# Altium integrated library Linear Technology Power Management Switching Regulator LTC1174-LTC3901.IntLib: 2647 symbols (part 167 of 364)
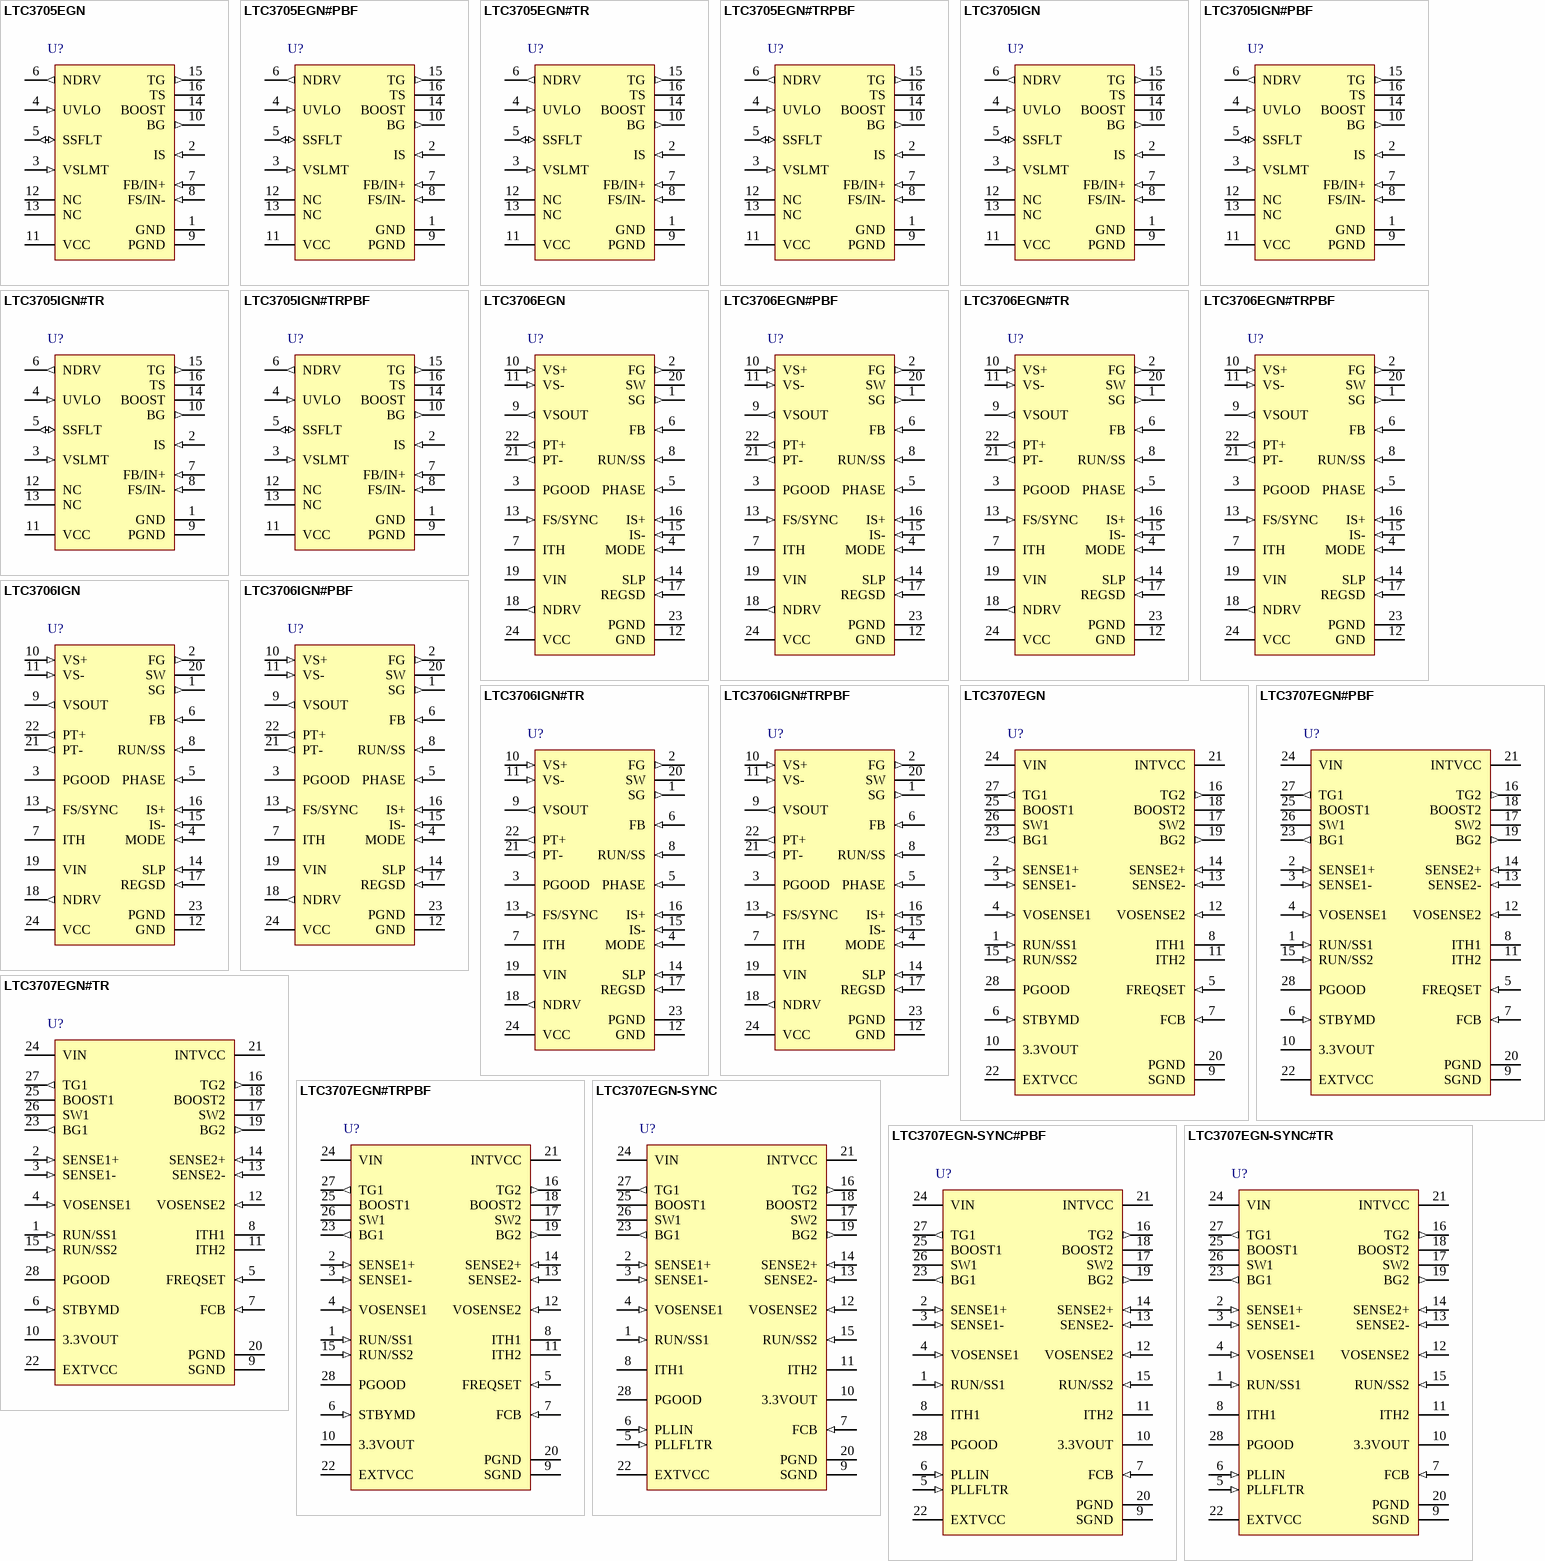
[diagram p200: symbols LTC3705EGN to LTC3707EGN-SYNC#TR]

## LTC3707EGN-SYNC#TR
designator U?
High Efficiency, 2-Phase Synchronous Step-Down Switching Regulator, 28-pin SOP (GN-28), -40 to 85 degC, Tape and Reel; Manufacturer: Linear Technology; PartNumber: LTC3707EGN-SYNC#TR; Frequency Sync Range: 150kHz - 300kHz; Number of Outputs: 2; DatasheetVersion: Rev. A; PackageVersion: Rev. B, 03/2012; PackageReference: GN-28; PackageDescription: 28-Pin Plastic SSOP, Body 9.9 x 3.9 mm, Pitch 0.635 mm; Supplier 1: Digi-Key; Supplier Part Number 1: LTC3707EGN-SYNCTR-ND; Packing: Tape and Reel; RoHS: FALSE; Mounting Technology: Surface Mount; ComponentLink1Description: Manufacturer URL; ComponentLink1URL: http://www.linear.com/; ComponentLink2Description: Datasheet; ComponentLink2URL: http://cds.linear.com/docs/en/datasheet/3707sfa.pdf; ComponentLink3Description: Package Specification; ComponentLink3URL: http://cds.linear.com/docs/en/packaging/05081641_B_GN28.pdf
footprint LT-GN-28_N (SOP, 28-Leads, Body 9.98x3.98mm, Pitch 0.635mm, IPC Medium Density)
footprint LT-GN-28_L (SOP, 28-Leads, Body 9.98x3.98mm, Pitch 0.635mm, IPC High Density)
footprint LT-GN-28_M (SOP, 28-Leads, Body 9.98x3.98mm, Pitch 0.635mm, IPC Low Density)
pins: 1 RUN/SS1 (in), 2 SENSE1+ (in) "The (+) Input to the Differential Current Comparators. The ITH pin voltage and controlled offsets between the SENSE- and SENSE+ pins in conjunction with RSENSE set the current trip threshold.", 3 SENSE1- (in) "The (-) Input to the Differential Current Comparators.", 4 VOSENSE1 (in) "Receives the remotely-sensed feedback voltage for each controller from an external resistive divider across the output.", 5 PLLFLTR (in) "The phase-locked loop’s lowpass filter is tied to this pin. Alternatively, this pin can be driven with an AC or DC voltage source to vary the frequency of the internal oscillator.", 6 PLLIN (in) "External Synchronization Input to Phase Detector. This pin is internally terminated to SGND with 50kohm. The phase-locked loop will force the rising top gate signal of controller 1 to be synchronized with the rising edge of (See Datasheet)", 7 FCB (in) "Forced Continuous Control Input. This input acts on both controllers and is normally used to regulate a secondary winding. Pulling this pin below 0.8V will force continuous synchronous operation. Do not leave this pin (See Datasheet)", 8 ITH1 "Error Amplifier Outputs and Switching Regulator Compensation Point. Each associated channels’ current comparator trip point increases with this control voltage.", 9 SGND (power) "Small Signal Ground. Common to both controllers; must be routed separately from high current grounds to the common (-) terminals of the COUT capacitors.", 10 3.3VOUT (power), 11 ITH2 "Error Amplifier Outputs and Switching Regulator Compensation Point. Each associated channels’ current comparator trip point increases with this control voltage.", 12 VOSENSE2 (in) "Receives the remotely-sensed feedback voltage for each controller from an external resistive divider across the output.", 13 SENSE2- (in) "The (-) Input to the Differential Current Comparators.", 14 SENSE2+ (in) "The (+) Input to the Differential Current Comparators. The ITH pin voltage and controlled offsets between the SENSE- and SENSE+ pins in conjunction with RSENSE set the current trip threshold.", 15 RUN/SS2 (in), 16 TG2 (out) "High Current Gate Drives for Top N-Channel MOSFETs. These are the outputs of floating drivers with a voltage swing equal to INTVCC - 0.5V superimposed on the switch node voltage SW.", 17 SW2 "Switch Node Connections to Inductors. Voltage swing at these pins is from a Schottky diode (external) voltage drop below ground to VIN.", 18 BOOST2 "Bootstrapped Supplies to the Top Side Floating Drivers. Capacitors are connected between the boost and switch pins and Schottky diodes are tied between the boost and INTVCC pins. Voltage swing at the boost pins is from (See Datasheet)", 19 BG2 (out) "High Current Gate Drives for Bottom (Synchronous) N-Channel MOSFETs. Voltage swing at these pins is from ground to INTVCC", 20 PGND (power) "Driver Power Ground. Connects to the sources of bottom (synchronous) N-channel MOSFETs, anodes of the Schottky rectifiers and the (-) terminal(s) of CIN.", 21 INTVCC (power), 22 EXTVCC (power), 23 BG1 (out) "High Current Gate Drives for Bottom (Synchronous) N-Channel MOSFETs. Voltage swing at these pins is from ground to INTVCC", 24 VIN (power) "Main Supply Pin. A bypass capacitor should be tied between this pin and the signal ground pin.", 25 BOOST1 "Bootstrapped Supplies to the Top Side Floating Drivers. Capacitors are connected between the boost and switch pins and Schottky diodes are tied between the boost and INTVCC pins. Voltage swing at the boost pins is from (See Datasheet)", 26 SW1 "Switch Node Connections to Inductors. Voltage swing at these pins is from a Schottky diode (external) voltage drop below ground to VIN.", 27 TG1 (out) "High Current Gate Drives for Top N-Channel MOSFETs. These are the outputs of floating drivers with a voltage swing equal to INTVCC - 0.5V superimposed on the switch node voltage SW.", 28 PGOOD (oc) "Open-Drain Logic Output. PGOOD is pulled to ground when the voltage on either VOSENSE pin is not within +/-7.5% of its set point."

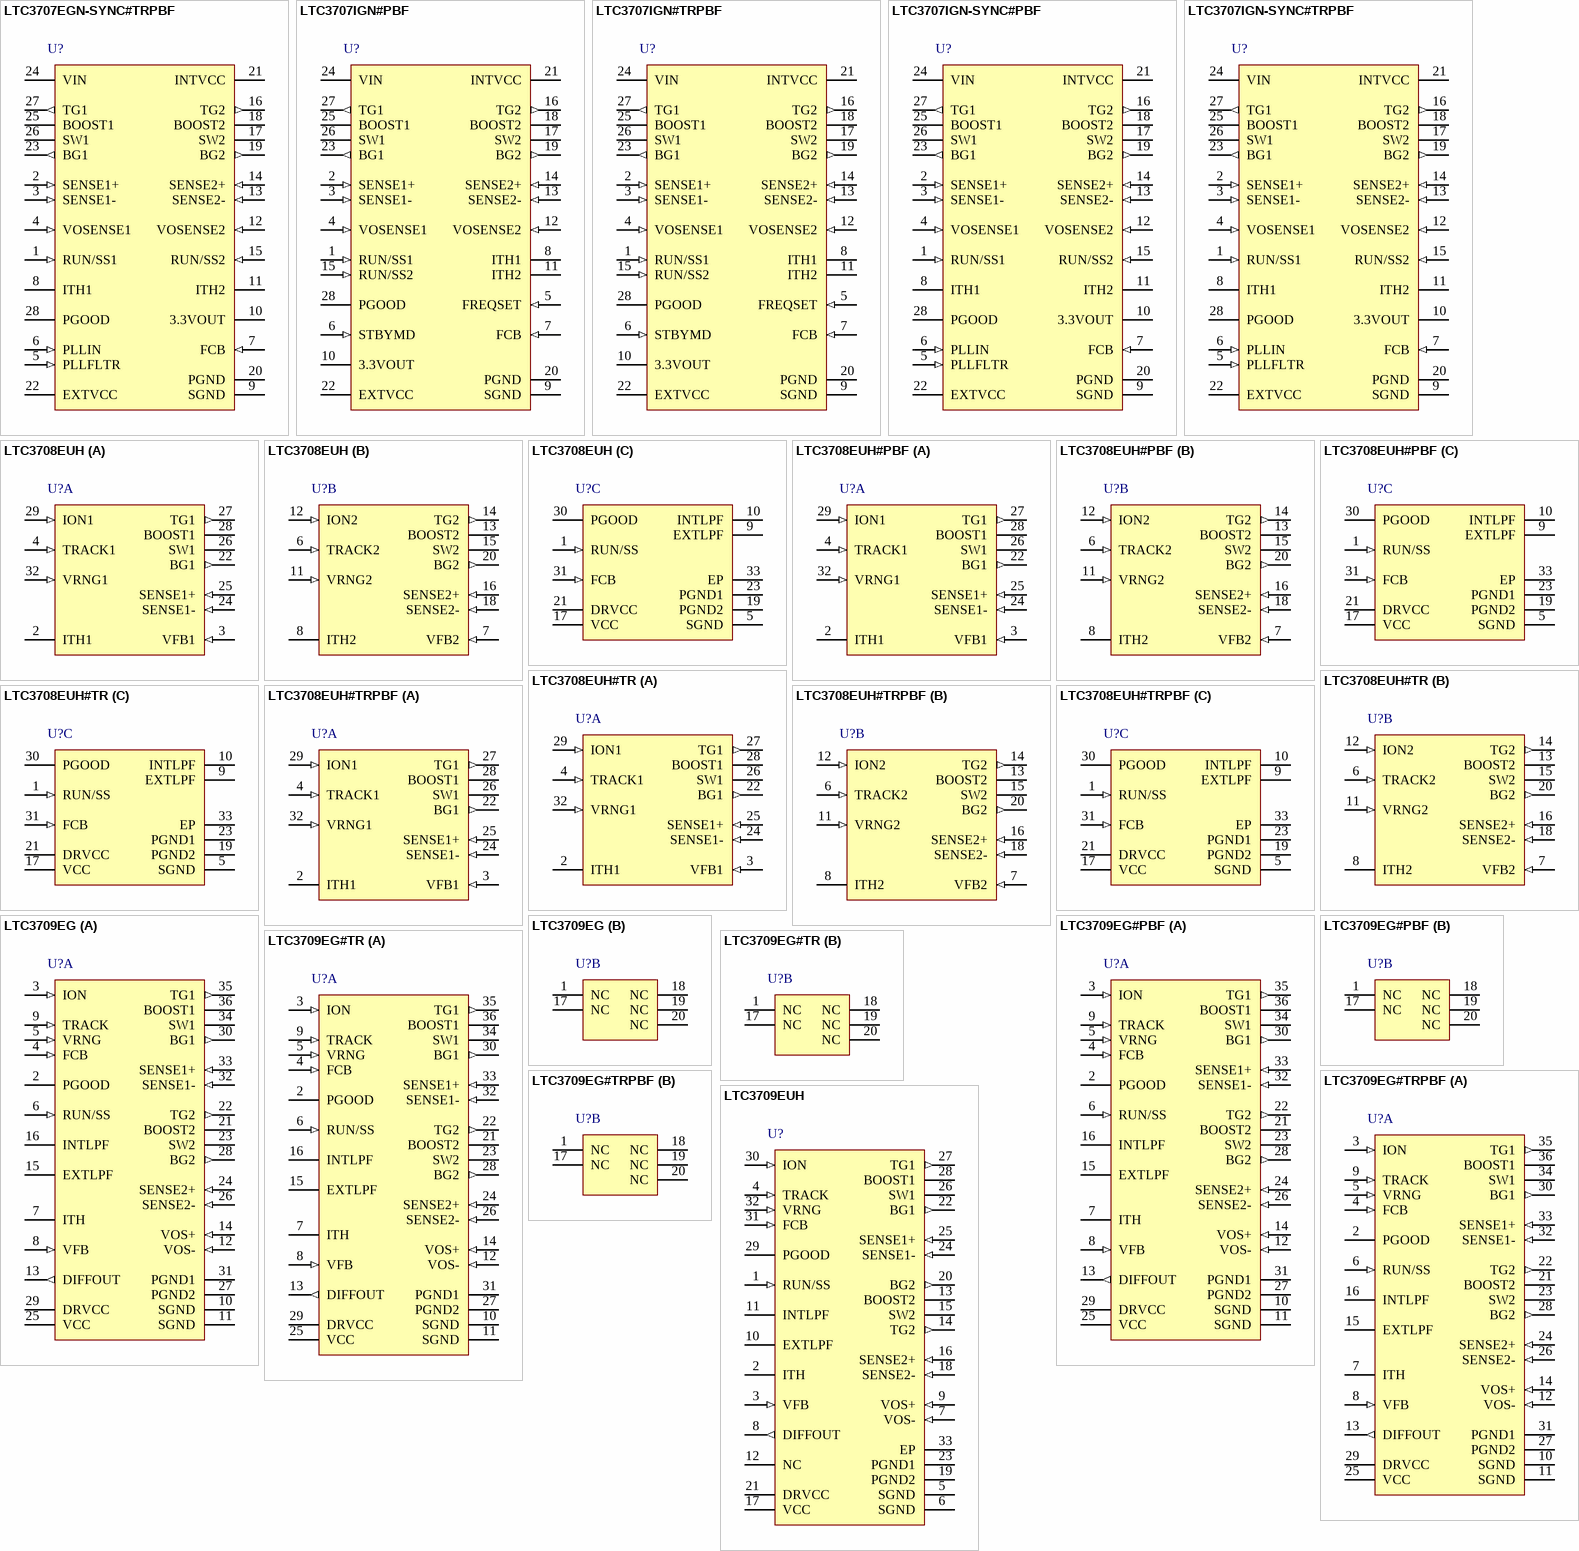
[diagram p53: symbols LTC3707EGN-SYNC#TRPBF to LTC3709EUH]

## LTC3707EGN-SYNC#TRPBF
designator U?
High Efficiency, 2-Phase Synchronous Step-Down Switching Regulator, 28-pin SOP (GN-28), -40 to 85 degC, Pb-Free, Tape and Reel; Manufacturer: Linear Technology; PartNumber: LTC3707EGN-SYNC#TRPBF; Frequency Sync Range: 150kHz - 300kHz; Number of Outputs: 2; DatasheetVersion: Rev. A; PackageVersion: Rev. B, 03/2012; PackageReference: GN-28; PackageDescription: 28-Pin Plastic SSOP, Body 9.9 x 3.9 mm, Pitch 0.635 mm; Supplier 1: Digi-Key; Supplier Part Number 1: LTC3707EGN-SYNC#TRPBF-ND; Packing: Tape and Reel; RoHS: TRUE; Mounting Technology: Surface Mount; ComponentLink1Description: Manufacturer URL; ComponentLink1URL: http://www.linear.com/; ComponentLink2Description: Datasheet; ComponentLink2URL: http://cds.linear.com/docs/en/datasheet/3707sfa.pdf; ComponentLink3Description: Package Specification; ComponentLink3URL: http://cds.linear.com/docs/en/packaging/05081641_B_GN28.pdf
footprint LT-GN-28_N (SOP, 28-Leads, Body 9.98x3.98mm, Pitch 0.635mm, IPC Medium Density)
footprint LT-GN-28_L (SOP, 28-Leads, Body 9.98x3.98mm, Pitch 0.635mm, IPC High Density)
footprint LT-GN-28_M (SOP, 28-Leads, Body 9.98x3.98mm, Pitch 0.635mm, IPC Low Density)
pins: 1 RUN/SS1 (in), 2 SENSE1+ (in) "The (+) Input to the Differential Current Comparators. The ITH pin voltage and controlled offsets between the SENSE- and SENSE+ pins in conjunction with RSENSE set the current trip threshold.", 3 SENSE1- (in) "The (-) Input to the Differential Current Comparators.", 4 VOSENSE1 (in) "Receives the remotely-sensed feedback voltage for each controller from an external resistive divider across the output.", 5 PLLFLTR (in) "The phase-locked loop’s lowpass filter is tied to this pin. Alternatively, this pin can be driven with an AC or DC voltage source to vary the frequency of the internal oscillator.", 6 PLLIN (in) "External Synchronization Input to Phase Detector. This pin is internally terminated to SGND with 50kohm. The phase-locked loop will force the rising top gate signal of controller 1 to be synchronized with the rising edge of (See Datasheet)", 7 FCB (in) "Forced Continuous Control Input. This input acts on both controllers and is normally used to regulate a secondary winding. Pulling this pin below 0.8V will force continuous synchronous operation. Do not leave this pin (See Datasheet)", 8 ITH1 "Error Amplifier Outputs and Switching Regulator Compensation Point. Each associated channels’ current comparator trip point increases with this control voltage.", 9 SGND (power) "Small Signal Ground. Common to both controllers; must be routed separately from high current grounds to the common (-) terminals of the COUT capacitors.", 10 3.3VOUT (power), 11 ITH2 "Error Amplifier Outputs and Switching Regulator Compensation Point. Each associated channels’ current comparator trip point increases with this control voltage.", 12 VOSENSE2 (in) "Receives the remotely-sensed feedback voltage for each controller from an external resistive divider across the output.", 13 SENSE2- (in) "The (-) Input to the Differential Current Comparators.", 14 SENSE2+ (in) "The (+) Input to the Differential Current Comparators. The ITH pin voltage and controlled offsets between the SENSE- and SENSE+ pins in conjunction with RSENSE set the current trip threshold.", 15 RUN/SS2 (in), 16 TG2 (out) "High Current Gate Drives for Top N-Channel MOSFETs. These are the outputs of floating drivers with a voltage swing equal to INTVCC - 0.5V superimposed on the switch node voltage SW.", 17 SW2 "Switch Node Connections to Inductors. Voltage swing at these pins is from a Schottky diode (external) voltage drop below ground to VIN.", 18 BOOST2 "Bootstrapped Supplies to the Top Side Floating Drivers. Capacitors are connected between the boost and switch pins and Schottky diodes are tied between the boost and INTVCC pins. Voltage swing at the boost pins is from (See Datasheet)", 19 BG2 (out) "High Current Gate Drives for Bottom (Synchronous) N-Channel MOSFETs. Voltage swing at these pins is from ground to INTVCC", 20 PGND (power) "Driver Power Ground. Connects to the sources of bottom (synchronous) N-channel MOSFETs, anodes of the Schottky rectifiers and the (-) terminal(s) of CIN.", 21 INTVCC (power), 22 EXTVCC (power), 23 BG1 (out) "High Current Gate Drives for Bottom (Synchronous) N-Channel MOSFETs. Voltage swing at these pins is from ground to INTVCC", 24 VIN (power) "Main Supply Pin. A bypass capacitor should be tied between this pin and the signal ground pin.", 25 BOOST1 "Bootstrapped Supplies to the Top Side Floating Drivers. Capacitors are connected between the boost and switch pins and Schottky diodes are tied between the boost and INTVCC pins. Voltage swing at the boost pins is from (See Datasheet)", 26 SW1 "Switch Node Connections to Inductors. Voltage swing at these pins is from a Schottky diode (external) voltage drop below ground to VIN.", 27 TG1 (out) "High Current Gate Drives for Top N-Channel MOSFETs. These are the outputs of floating drivers with a voltage swing equal to INTVCC - 0.5V superimposed on the switch node voltage SW.", 28 PGOOD (oc) "Open-Drain Logic Output. PGOOD is pulled to ground when the voltage on either VOSENSE pin is not within +/-7.5% of its set point."

## LTC3707IGN#PBF
designator U?
High Efficiency, 2-Phase Synchronous Step-Down Switching Regulator, 28-pin SOP (GN-28), -40 to 85 degC, Pb-Free; Manufacturer: Linear Technology; PartNumber: LTC3707IGN#PBF; Number of Outputs: 2; DatasheetVersion: Rev. B; PackageVersion: Rev. B, 03/2012; PackageReference: GN-28; PackageDescription: 28-Pin Plastic SSOP, Body 9.9 x 3.9 mm, Pitch 0.635 mm; Supplier 1: Digi-Key; Supplier Part Number 1: LTC3707IGN#PBF-ND; RoHS: TRUE; Mounting Technology: Surface Mount; ComponentLink1Description: Manufacturer URL; ComponentLink1URL: http://www.linear.com/; ComponentLink2Description: Datasheet; ComponentLink2URL: http://cds.linear.com/docs/en/datasheet/3707fb.pdf; ComponentLink3Description: Package Specification; ComponentLink3URL: http://cds.linear.com/docs/en/packaging/05081641_B_GN28.pdf
footprint LT-GN-28_N (SOP, 28-Leads, Body 9.98x3.98mm, Pitch 0.635mm, IPC Medium Density)
footprint LT-GN-28_L (SOP, 28-Leads, Body 9.98x3.98mm, Pitch 0.635mm, IPC High Density)
footprint LT-GN-28_M (SOP, 28-Leads, Body 9.98x3.98mm, Pitch 0.635mm, IPC Low Density)
pins: 1 RUN/SS1 (in) "Combination of soft-start, run control inputs and short-circuit detection timers. A capacitor to ground at each of these pins sets the ramp time to full output current. Forcing either of these pins back below 1.0V causes the (See Datasheet)", 2 SENSE1+ (in) "The (+) Input to the Differential Current Comparators. The ITH pin voltage and controlled offsets between the SENSE- and SENSE+ pins in conjunction with RSENSE set the current trip threshold.", 3 SENSE1- (in) "The (-) Input to the Differential Current Comparators.", 4 VOSENSE1 (in) "Receives the remotely sensed feedback voltage for each controller from an external resistive divider across the output.", 5 FREQSET (in) "Frequency Control Input to the Oscillator. This pin can be left open, tied to ground, tied to INTVCC or driven by an external voltage source. This pin can also be used with an external phase detector to build a true (See Datasheet)", 6 STBYMD (in) "Control pin that determines which circuitry remains active when the controllers are shut down and/or provides a common control point to shut down both controllers. See the Operation section for details.", 7 FCB (in) "Forced Continuous Control Input. This input acts on both controllers and is normally used to regulate a secondary winding. Pulling this pin below 0.8V will force continuous synchronous operation on both controllers. Do not (See Datasheet)", 8 ITH1 "Error Amplifier Output and Switching Regulator Compensation Point. Each associated channels’ current comparator trip point increases with this control voltage.", 9 SGND (power) "Small Signal Ground common to both controllers, must be routed separately from high current grounds to the common (-) terminals of the COUT capacitors.", 10 3.3VOUT (power) "Output of a linear regulator capable of supplying 10mA DC with peak currents as high as 50mA.", 11 ITH2 "Error Amplifier Output and Switching Regulator Compensation Point. Each associated channels’ current comparator trip point increases with this control voltage.", 12 VOSENSE2 (in) "Receives the remotelysensed feedback voltage for each controller from an external resistive divider across the output.", 13 SENSE2- (in) "The (-) Input to the Differential Current Comparators.", 14 SENSE2+ (in) "The (+) Input to the Differential Current Comparators. The ITH pin voltage and controlled offsets between the SENSE- and SENSE+ pins in conjunction with RSENSE set the current trip threshold.", 15 RUN/SS2 (in) "Combination of soft-start, run control inputs and short-circuit detection timers. A capacitor to ground at each of these pins sets the ramp time to full output current. Forcing either of these pins back below 1.0V causes the (See Datasheet)", 16 TG2 (out) "High Current Gate Drives for Top N-Channel MOSFETs. These are the outputs of floating drivers with a voltage swing equal to INTVCC - 0.5V superimposed on the switch node voltage SW.", 17 SW2 "Switch Node Connections to Inductors. Voltage swing at these pins is from a Schottky diode (external) voltage drop below ground to VIN.", 18 BOOST2 "Bootstrapped Supplies to the Top Side Floating Drivers. Capacitors are connected between the boost and switch pins and Schottky diodes are tied between the boost and INTVCC pins. Voltage swing at the boost pins is from (See Datasheet)", 19 BG2 (out) "High Current Gate Drives for Bottom (Synchronous) N-Channel MOSFETs. Voltage swing at these pins is from ground to INTVCC.", 20 PGND (power) "Driver Power Ground. Connects to the sources of bottom (synchronous) N-channel MOSFETs, anodes of the Schottky rectifi ers and the (-) terminal(s) of CIN.", 21 INTVCC (power) "Output of the Internal 5V Linear Low Dropout Regulator and the EXTVCC Switch. The driver and control circuits are powered from this voltage source. Must be decoupled to power ground with a minimum of 4.7uF tantalum or other (See Datasheet)", 22 EXTVCC (power) "External Power Input to an Internal Switch Connected to INTVCC. This switch closes and supplies VCC power, bypassing the internal low dropout regulator, whenever EXTVCC is higher than 4.7V. See EXTVCC connection in (See Datasheet)", 23 BG1 (out) "High Current Gate Drives for Bottom (Synchronous) N-Channel MOSFETs. Voltage swing at these pins is from ground to INTVCC.", 24 VIN (power) "Main Supply Pin. A bypass capacitor should be tied between this pin and the signal ground pin.", 25 BOOST1 "Bootstrapped Supplies to the Top Side Floating Drivers. Capacitors are connected between the boost and switch pins and Schottky diodes are tied between the boost and INTVCC pins. Voltage swing at the boost pins is from (See Datasheet)", 26 SW1 "Switch Node Connections to Inductors. Voltage swing at these pins is from a Schottky diode (external) voltage drop below ground to VIN.", 27 TG1 (out) "High Current Gate Drives for Top N-Channel MOSFETs. These are the outputs of floating drivers with a voltage swing equal to INTVCC - 0.5V superimposed on the switch node voltage SW.", 28 PGOOD (oc) "Open-Drain Logic Output. PGOOD is pulled to ground when the voltage on either VOSENSE pin is not within +/-7.5% of its set point."

## LTC3707IGN#TRPBF
designator U?
High Efficiency, 2-Phase Synchronous Step-Down Switching Regulator, 28-pin SOP (GN-28), -40 to 85 degC, Pb-Free, Tape and Reel; Manufacturer: Linear Technology; PartNumber: LTC3707IGN#TRPBF; Number of Outputs: 2; DatasheetVersion: Rev. B; PackageVersion: Rev. B, 03/2012; PackageReference: GN-28; PackageDescription: 28-Pin Plastic SSOP, Body 9.9 x 3.9 mm, Pitch 0.635 mm; Supplier 1: Digi-Key; Supplier Part Number 1: LTC3707IGN#TRPBF-ND; Packing: Tape and Reel; RoHS: TRUE; Mounting Technology: Surface Mount; ComponentLink1Description: Manufacturer URL; ComponentLink1URL: http://www.linear.com/; ComponentLink2Description: Datasheet; ComponentLink2URL: http://cds.linear.com/docs/en/datasheet/3707fb.pdf; ComponentLink3Description: Package Specification; ComponentLink3URL: http://cds.linear.com/docs/en/packaging/05081641_B_GN28.pdf
footprint LT-GN-28_N (SOP, 28-Leads, Body 9.98x3.98mm, Pitch 0.635mm, IPC Medium Density)
footprint LT-GN-28_L (SOP, 28-Leads, Body 9.98x3.98mm, Pitch 0.635mm, IPC High Density)
footprint LT-GN-28_M (SOP, 28-Leads, Body 9.98x3.98mm, Pitch 0.635mm, IPC Low Density)
pins: 1 RUN/SS1 (in) "Combination of soft-start, run control inputs and short-circuit detection timers. A capacitor to ground at each of these pins sets the ramp time to full output current. Forcing either of these pins back below 1.0V causes the (See Datasheet)", 2 SENSE1+ (in) "The (+) Input to the Differential Current Comparators. The ITH pin voltage and controlled offsets between the SENSE- and SENSE+ pins in conjunction with RSENSE set the current trip threshold.", 3 SENSE1- (in) "The (-) Input to the Differential Current Comparators.", 4 VOSENSE1 (in) "Receives the remotely sensed feedback voltage for each controller from an external resistive divider across the output.", 5 FREQSET (in) "Frequency Control Input to the Oscillator. This pin can be left open, tied to ground, tied to INTVCC or driven by an external voltage source. This pin can also be used with an external phase detector to build a true (See Datasheet)", 6 STBYMD (in) "Control pin that determines which circuitry remains active when the controllers are shut down and/or provides a common control point to shut down both controllers. See the Operation section for details.", 7 FCB (in) "Forced Continuous Control Input. This input acts on both controllers and is normally used to regulate a secondary winding. Pulling this pin below 0.8V will force continuous synchronous operation on both controllers. Do not (See Datasheet)", 8 ITH1 "Error Amplifier Output and Switching Regulator Compensation Point. Each associated channels’ current comparator trip point increases with this control voltage.", 9 SGND (power) "Small Signal Ground common to both controllers, must be routed separately from high current grounds to the common (-) terminals of the COUT capacitors.", 10 3.3VOUT (power) "Output of a linear regulator capable of supplying 10mA DC with peak currents as high as 50mA.", 11 ITH2 "Error Amplifier Output and Switching Regulator Compensation Point. Each associated channels’ current comparator trip point increases with this control voltage.", 12 VOSENSE2 (in) "Receives the remotelysensed feedback voltage for each controller from an external resistive divider across the output.", 13 SENSE2- (in) "The (-) Input to the Differential Current Comparators.", 14 SENSE2+ (in) "The (+) Input to the Differential Current Comparators. The ITH pin voltage and controlled offsets between the SENSE- and SENSE+ pins in conjunction with RSENSE set the current trip threshold.", 15 RUN/SS2 (in) "Combination of soft-start, run control inputs and short-circuit detection timers. A capacitor to ground at each of these pins sets the ramp time to full output current. Forcing either of these pins back below 1.0V causes the (See Datasheet)", 16 TG2 (out) "High Current Gate Drives for Top N-Channel MOSFETs. These are the outputs of floating drivers with a voltage swing equal to INTVCC - 0.5V superimposed on the switch node voltage SW.", 17 SW2 "Switch Node Connections to Inductors. Voltage swing at these pins is from a Schottky diode (external) voltage drop below ground to VIN.", 18 BOOST2 "Bootstrapped Supplies to the Top Side Floating Drivers. Capacitors are connected between the boost and switch pins and Schottky diodes are tied between the boost and INTVCC pins. Voltage swing at the boost pins is from (See Datasheet)", 19 BG2 (out) "High Current Gate Drives for Bottom (Synchronous) N-Channel MOSFETs. Voltage swing at these pins is from ground to INTVCC.", 20 PGND (power) "Driver Power Ground. Connects to the sources of bottom (synchronous) N-channel MOSFETs, anodes of the Schottky rectifi ers and the (-) terminal(s) of CIN.", 21 INTVCC (power) "Output of the Internal 5V Linear Low Dropout Regulator and the EXTVCC Switch. The driver and control circuits are powered from this voltage source. Must be decoupled to power ground with a minimum of 4.7uF tantalum or other (See Datasheet)", 22 EXTVCC (power) "External Power Input to an Internal Switch Connected to INTVCC. This switch closes and supplies VCC power, bypassing the internal low dropout regulator, whenever EXTVCC is higher than 4.7V. See EXTVCC connection in (See Datasheet)", 23 BG1 (out) "High Current Gate Drives for Bottom (Synchronous) N-Channel MOSFETs. Voltage swing at these pins is from ground to INTVCC.", 24 VIN (power) "Main Supply Pin. A bypass capacitor should be tied between this pin and the signal ground pin.", 25 BOOST1 "Bootstrapped Supplies to the Top Side Floating Drivers. Capacitors are connected between the boost and switch pins and Schottky diodes are tied between the boost and INTVCC pins. Voltage swing at the boost pins is from (See Datasheet)", 26 SW1 "Switch Node Connections to Inductors. Voltage swing at these pins is from a Schottky diode (external) voltage drop below ground to VIN.", 27 TG1 (out) "High Current Gate Drives for Top N-Channel MOSFETs. These are the outputs of floating drivers with a voltage swing equal to INTVCC - 0.5V superimposed on the switch node voltage SW.", 28 PGOOD (oc) "Open-Drain Logic Output. PGOOD is pulled to ground when the voltage on either VOSENSE pin is not within +/-7.5% of its set point."

## LTC3707IGN-SYNC#PBF
designator U?
High Efficiency, 2-Phase Synchronous Step-Down Switching Regulator, 28-pin SOP (GN-28), -40 to 85 degC; Manufacturer: Linear Technology; PartNumber: LTC3707IGN-SYNC#PBF; Frequency Sync Range: 150kHz - 300kHz; Number of Outputs: 2; DatasheetVersion: Rev. A; PackageVersion: Rev. B, 03/2012; PackageReference: GN-28; PackageDescription: 28-Pin Plastic SSOP, Body 9.9 x 3.9 mm, Pitch 0.635 mm; Supplier 1: Digi-Key; Supplier Part Number 1: LTC3707IGN-SYNC#PBF-ND; RoHS: FALSE; Mounting Technology: Surface Mount; ComponentLink1Description: Manufacturer URL; ComponentLink1URL: http://www.linear.com/; ComponentLink2Description: Datasheet; ComponentLink2URL: http://cds.linear.com/docs/en/datasheet/3707sfa.pdf; ComponentLink3Description: Package Specification; ComponentLink3URL: http://cds.linear.com/docs/en/packaging/05081641_B_GN28.pdf
footprint LT-GN-28_N (SOP, 28-Leads, Body 9.98x3.98mm, Pitch 0.635mm, IPC Medium Density)
footprint LT-GN-28_L (SOP, 28-Leads, Body 9.98x3.98mm, Pitch 0.635mm, IPC High Density)
footprint LT-GN-28_M (SOP, 28-Leads, Body 9.98x3.98mm, Pitch 0.635mm, IPC Low Density)
pins: 1 RUN/SS1 (in), 2 SENSE1+ (in) "The (+) Input to the Differential Current Comparators. The ITH pin voltage and controlled offsets between the SENSE- and SENSE+ pins in conjunction with RSENSE set the current trip threshold.", 3 SENSE1- (in) "The (-) Input to the Differential Current Comparators.", 4 VOSENSE1 (in) "Receives the remotely-sensed feedback voltage for each controller from an external resistive divider across the output.", 5 PLLFLTR (in) "The phase-locked loop’s lowpass filter is tied to this pin. Alternatively, this pin can be driven with an AC or DC voltage source to vary the frequency of the internal oscillator.", 6 PLLIN (in) "External Synchronization Input to Phase Detector. This pin is internally terminated to SGND with 50kohm. The phase-locked loop will force the rising top gate signal of controller 1 to be synchronized with the rising edge of (See Datasheet)", 7 FCB (in) "Forced Continuous Control Input. This input acts on both controllers and is normally used to regulate a secondary winding. Pulling this pin below 0.8V will force continuous synchronous operation. Do not leave this pin (See Datasheet)", 8 ITH1 "Error Amplifier Outputs and Switching Regulator Compensation Point. Each associated channels’ current comparator trip point increases with this control voltage.", 9 SGND (power) "Small Signal Ground. Common to both controllers; must be routed separately from high current grounds to the common (-) terminals of the COUT capacitors.", 10 3.3VOUT (power), 11 ITH2 "Error Amplifier Outputs and Switching Regulator Compensation Point. Each associated channels’ current comparator trip point increases with this control voltage.", 12 VOSENSE2 (in) "Receives the remotely-sensed feedback voltage for each controller from an external resistive divider across the output.", 13 SENSE2- (in) "The (-) Input to the Differential Current Comparators.", 14 SENSE2+ (in) "The (+) Input to the Differential Current Comparators. The ITH pin voltage and controlled offsets between the SENSE- and SENSE+ pins in conjunction with RSENSE set the current trip threshold.", 15 RUN/SS2 (in), 16 TG2 (out) "High Current Gate Drives for Top N-Channel MOSFETs. These are the outputs of floating drivers with a voltage swing equal to INTVCC - 0.5V superimposed on the switch node voltage SW.", 17 SW2 "Switch Node Connections to Inductors. Voltage swing at these pins is from a Schottky diode (external) voltage drop below ground to VIN.", 18 BOOST2 "Bootstrapped Supplies to the Top Side Floating Drivers. Capacitors are connected between the boost and switch pins and Schottky diodes are tied between the boost and INTVCC pins. Voltage swing at the boost pins is from (See Datasheet)", 19 BG2 (out) "High Current Gate Drives for Bottom (Synchronous) N-Channel MOSFETs. Voltage swing at these pins is from ground to INTVCC", 20 PGND (power) "Driver Power Ground. Connects to the sources of bottom (synchronous) N-channel MOSFETs, anodes of the Schottky rectifiers and the (-) terminal(s) of CIN.", 21 INTVCC (power), 22 EXTVCC (power), 23 BG1 (out) "High Current Gate Drives for Bottom (Synchronous) N-Channel MOSFETs. Voltage swing at these pins is from ground to INTVCC", 24 VIN (power) "Main Supply Pin. A bypass capacitor should be tied between this pin and the signal ground pin.", 25 BOOST1 "Bootstrapped Supplies to the Top Side Floating Drivers. Capacitors are connected between the boost and switch pins and Schottky diodes are tied between the boost and INTVCC pins. Voltage swing at the boost pins is from (See Datasheet)", 26 SW1 "Switch Node Connections to Inductors. Voltage swing at these pins is from a Schottky diode (external) voltage drop below ground to VIN.", 27 TG1 (out) "High Current Gate Drives for Top N-Channel MOSFETs. These are the outputs of floating drivers with a voltage swing equal to INTVCC - 0.5V superimposed on the switch node voltage SW.", 28 PGOOD (oc) "Open-Drain Logic Output. PGOOD is pulled to ground when the voltage on either VOSENSE pin is not within +/-7.5% of its set point."

## LTC3707IGN-SYNC#TRPBF
designator U?
High Efficiency, 2-Phase Synchronous Step-Down Switching Regulator, 28-pin SOP (GN-28), -40 to 85 degC, Pb-Free, Tape and Reel; Manufacturer: Linear Technology; PartNumber: LTC3707IGN-SYNC#TRPBF; Frequency Sync Range: 150kHz - 300kHz; Number of Outputs: 2; DatasheetVersion: Rev. A; PackageVersion: Rev. B, 03/2012; PackageReference: GN-28; PackageDescription: 28-Pin Plastic SSOP, Body 9.9 x 3.9 mm, Pitch 0.635 mm; Supplier 1: Digi-Key; Supplier Part Number 1: LTC3707IGN-SYNC#TRPBF-ND; Packing: Tape and Reel; RoHS: TRUE; Mounting Technology: Surface Mount; ComponentLink1Description: Manufacturer URL; ComponentLink1URL: http://www.linear.com/; ComponentLink2Description: Datasheet; ComponentLink2URL: http://cds.linear.com/docs/en/datasheet/3707sfa.pdf; ComponentLink3Description: Package Specification; ComponentLink3URL: http://cds.linear.com/docs/en/packaging/05081641_B_GN28.pdf
footprint LT-GN-28_N (SOP, 28-Leads, Body 9.98x3.98mm, Pitch 0.635mm, IPC Medium Density)
footprint LT-GN-28_L (SOP, 28-Leads, Body 9.98x3.98mm, Pitch 0.635mm, IPC High Density)
footprint LT-GN-28_M (SOP, 28-Leads, Body 9.98x3.98mm, Pitch 0.635mm, IPC Low Density)
pins: 1 RUN/SS1 (in), 2 SENSE1+ (in) "The (+) Input to the Differential Current Comparators. The ITH pin voltage and controlled offsets between the SENSE- and SENSE+ pins in conjunction with RSENSE set the current trip threshold.", 3 SENSE1- (in) "The (-) Input to the Differential Current Comparators.", 4 VOSENSE1 (in) "Receives the remotely-sensed feedback voltage for each controller from an external resistive divider across the output.", 5 PLLFLTR (in) "The phase-locked loop’s lowpass filter is tied to this pin. Alternatively, this pin can be driven with an AC or DC voltage source to vary the frequency of the internal oscillator.", 6 PLLIN (in) "External Synchronization Input to Phase Detector. This pin is internally terminated to SGND with 50kohm. The phase-locked loop will force the rising top gate signal of controller 1 to be synchronized with the rising edge of (See Datasheet)", 7 FCB (in) "Forced Continuous Control Input. This input acts on both controllers and is normally used to regulate a secondary winding. Pulling this pin below 0.8V will force continuous synchronous operation. Do not leave this pin (See Datasheet)", 8 ITH1 "Error Amplifier Outputs and Switching Regulator Compensation Point. Each associated channels’ current comparator trip point increases with this control voltage.", 9 SGND (power) "Small Signal Ground. Common to both controllers; must be routed separately from high current grounds to the common (-) terminals of the COUT capacitors.", 10 3.3VOUT (power), 11 ITH2 "Error Amplifier Outputs and Switching Regulator Compensation Point. Each associated channels’ current comparator trip point increases with this control voltage.", 12 VOSENSE2 (in) "Receives the remotely-sensed feedback voltage for each controller from an external resistive divider across the output.", 13 SENSE2- (in) "The (-) Input to the Differential Current Comparators.", 14 SENSE2+ (in) "The (+) Input to the Differential Current Comparators. The ITH pin voltage and controlled offsets between the SENSE- and SENSE+ pins in conjunction with RSENSE set the current trip threshold.", 15 RUN/SS2 (in), 16 TG2 (out) "High Current Gate Drives for Top N-Channel MOSFETs. These are the outputs of floating drivers with a voltage swing equal to INTVCC - 0.5V superimposed on the switch node voltage SW.", 17 SW2 "Switch Node Connections to Inductors. Voltage swing at these pins is from a Schottky diode (external) voltage drop below ground to VIN.", 18 BOOST2 "Bootstrapped Supplies to the Top Side Floating Drivers. Capacitors are connected between the boost and switch pins and Schottky diodes are tied between the boost and INTVCC pins. Voltage swing at the boost pins is from (See Datasheet)", 19 BG2 (out) "High Current Gate Drives for Bottom (Synchronous) N-Channel MOSFETs. Voltage swing at these pins is from ground to INTVCC", 20 PGND (power) "Driver Power Ground. Connects to the sources of bottom (synchronous) N-channel MOSFETs, anodes of the Schottky rectifiers and the (-) terminal(s) of CIN.", 21 INTVCC (power), 22 EXTVCC (power), 23 BG1 (out) "High Current Gate Drives for Bottom (Synchronous) N-Channel MOSFETs. Voltage swing at these pins is from ground to INTVCC", 24 VIN (power) "Main Supply Pin. A bypass capacitor should be tied between this pin and the signal ground pin.", 25 BOOST1 "Bootstrapped Supplies to the Top Side Floating Drivers. Capacitors are connected between the boost and switch pins and Schottky diodes are tied between the boost and INTVCC pins. Voltage swing at the boost pins is from (See Datasheet)", 26 SW1 "Switch Node Connections to Inductors. Voltage swing at these pins is from a Schottky diode (external) voltage drop below ground to VIN.", 27 TG1 (out) "High Current Gate Drives for Top N-Channel MOSFETs. These are the outputs of floating drivers with a voltage swing equal to INTVCC - 0.5V superimposed on the switch node voltage SW.", 28 PGOOD (oc) "Open-Drain Logic Output. PGOOD is pulled to ground when the voltage on either VOSENSE pin is not within +/-7.5% of its set point."

## LTC3708EUH
designator U?
Fast 2-Phase, No Rsense Buck Controller with Output Tracking, 32-pin QFN (UH-32), -40 to 85 degC; Manufacturer: Linear Technology; PartNumber: LTC3708EUH; Number of Outputs: 2; DatasheetVersion: Rev. B; PackageVersion: Rev. D, 06/2010; PackageReference: UH-32; PackageDescription: 32-Pin Plastic QFN, Body 5 x 5 mm, Pitch 0.5 mm; Supplier 1: Digi-Key; Supplier Part Number 1: LTC3708EUH-ND; Supplier 2: Newark; Supplier Part Number 2: 56M8104; RoHS: FALSE; Mounting Technology: Surface Mount; Code_JEDEC: MO-220; ComponentLink1Description: Manufacturer URL; ComponentLink1URL: http://www.linear.com/; ComponentLink2Description: Datasheet; ComponentLink2URL: http://cds.linear.com/docs/en/datasheet/3708fb.pdf; ComponentLink3Description: Package Specification; ComponentLink3URL: http://cds.linear.com/docs/en/packaging/QFN_32_05-08-1693.pdf
footprint LT-UH-32_N (QFN, 32-Leads, Body 5.1x5.1mm, Pitch 0.5mm, Thermal Pad 3.45X3.45mm, IPC Medium Density)
footprint LT-UH-32_L (QFN, 32-Leads, Body 5.1x5.1mm, Pitch 0.5mm, Thermal Pad 3.45X3.45mm, IPC High Density)
footprint LT-UH-32_M (QFN, 32-Leads, Body 5.1x5.1mm, Pitch 0.5mm, Thermal Pad 3.45X3.45mm, IPC Low Density)
part A pins: 2 ITH1 "Error Ampli?er Compensation Point and Current Control Threshold. The current comparator threshold increases with this control voltage. The voltage ranges from 0V to 2.4V with 0.8V corresponding to zero sense voltage (zer(See Datasheet)", 3 VFB1 (in) "Error Ampli?er Feedback Input. This pin connects the error ampli?er input to an external resistive divider from VOUT . Additional compensation can be implemented, if desired, using this pin.", 4 TRACK1 (in) "Tie TRACK2 pin to a resistive divider connected to the output of channel 1 for either coincident or ratiometric output tracking. TRACK1 is used in the same manner between multiple LTC3708s (see Applications Information). To (See Datasheet)", 22 BG1 (out) "Bottom Gate Drive. Drives the gate of the bottom N-channel MOSFET between ground and DRVCC.", 24 SENSE1- (in) "Current Sense Comparator Input. The (-) input to the current comparator is used to accurately Kelvin sense the bottom side of the sense resistor or MOSFET.", 25 SENSE1+ (in) "Current Sense Comparator Input. The (+) input to the current comparator is normally connected to the SW node unless using a sense resistor (See Applications Information).", 26 SW1 "Switch Node. The (-) terminal of the bootstrap capacitor CB connects here. This pin swings from a Schottky diode voltage drop below ground up to VIN.", 27 TG1 (out) "Top Gate Drive. Drives the top N-channel MOSFET with a voltage swing equal to DRVCC superimposed on the switch node voltage SW.", 28 BOOST1 "Boosted Floating Driver Supply. The (+) terminal of the bootstrap capacitor CB connects here. This pin swings from a diode voltage drop below DRVCC up to VIN + DRVCC.", 29 ION1 (in) "On-Time Current Input. Tie a resistor from VIN to this pin to set the one-shot timer current and thereby set the switching frequency.", 32 VRNG1 (in) "Sense Voltage Range Input. The voltage at this pin is ten times the nominal sense voltage at maximum output current and can be programmed from 0.5V to 2V. The sense voltage defaults to 70mV when this pin is tied to ground, (See Datasheet)"
part B pins: 6 TRACK2 (in) "Tie TRACK2 pin to a resistive divider connected to the output of channel 1 for either coincident or ratiometric output tracking. TRACK1 is used in the same manner between multiple LTC3708s (see Applications Information). To (See Datasheet)", 7 VFB2 (in) "Error Ampli?er Feedback Input. This pin connects the error ampli?er input to an external resistive divider from VOUT . Additional compensation can be implemented, if desired, using this pin.", 8 ITH2 "Error Ampli?er Compensation Point and Current Control Threshold. The current comparator threshold increases with this control voltage. The voltage ranges from 0V to 2.4V with 0.8V corresponding to zero sense voltage (zer(See Datasheet)", 11 VRNG2 (in) "Sense Voltage Range Input. The voltage at this pin is ten times the nominal sense voltage at maximum output current and can be programmed from 0.5V to 2V. The sense voltage defaults to 70mV when this pin is tied to ground, (See Datasheet)", 12 ION2 (in) "On-Time Current Input. Tie a resistor from VIN to this pin to set the one-shot timer current and thereby set the switching frequency.", 13 BOOST2 "Boosted Floating Driver Supply. The (+) terminal of the bootstrap capacitor CB connects here. This pin swings from a diode voltage drop below DRVCC up to VIN + DRVCC.", 14 TG2 (out) "Top Gate Drive. Drives the top N-channel MOSFET with a voltage swing equal to DRVCC superimposed on the switch node voltage SW.", 15 SW2 "Switch Node. The (-) terminal of the bootstrap capacitor CB connects here. This pin swings from a Schottky diode voltage drop below ground up to VIN.", 16 SENSE2+ (in) "Current Sense Comparator Input. The (+) input to the current comparator is normally connected to the SW node unless using a sense resistor (See Applications Information).", 18 SENSE2- (in) "Current Sense Comparator Input. The (-) input to the current comparator is used to accurately Kelvin sense the bottom side of the sense resistor or MOSFET.", 20 BG2 (out) "Bottom Gate Drive. Drives the gate of the bottom N-channel MOSFET between ground and DRVCC."
part C pins: 1 RUN/SS (in) "Run Control and Soft-Start Input. A capacitor to ground at this pin sets the ramp rate of the output voltage (approximately 0.5s/uF) and the time delay for overcurrent latchoff (see Applications Information). Forcing this (See Datasheet)", 5 SGND (power) "Signal Ground. All small-signal components and compensation components should connect to this ground and eventually connect to PGND at one point. The Exposed Pad of the LTC3708EUH must be soldered to the PCB.", 9 EXTLPF "Filter Connection for the External PLL. This PLL is used to synchronize the LTC3708 to an external clock. If external clock is not used, leave this pin floating.", 10 INTLPF "Filter Connection for the Internal PLL. This PLL is used to phase shift the second channel to the first channel by 180degrees.", 17 VCC (power) "Main Input Supply. Decouple this pin to SGND with an RC filter (10ohm, 1uF for example).", 19 PGND2 (power) "Power Ground. Connect this pin closely to the source of the bottom N-channel MOSFET, the (-) terminal of CDRVCC and the (-) terminal of CIN.", 21 DRVCC (power) "Driver Supply. Provides supply to the drivers for the bottom gates. Also used for charging the bootstrap capacitors.", 23 PGND1 (power) "Power Ground. Connect this pin closely to the source of the bottom N-channel MOSFET, the (-) terminal of CDRVCC and the (-) terminal of CIN.", 30 PGOOD (oc) "Power Good Output. Open-drain logic output that is pulled to ground when either or both output voltages are not within +/-10% of the regulation point. The output voltage must be out of regulation for at least 100us before (See Datasheet)", 31 FCB (in) "Forced Continuous and External Clock Input. Tie this pin to ground to force continuous synchronous operation or to VCC to enable discontinuous mode operation at light load. Feeding an external clock signal into this pin will (See Datasheet)", 33 EP (power) "Signal Ground. All small-signal components and compensation components should connect to this ground and eventually connect to PGND at one point. The Exposed Pad of the LTC3708EUH must be soldered to the PCB."

## LTC3708EUH#PBF
designator U?
Fast 2-Phase, No Rsense Buck Controller with Output Tracking, 32-pin QFN (UH-32), -40 to 85 degC, Pb-Free; Manufacturer: Linear Technology; PartNumber: LTC3708EUH#PBF; Number of Outputs: 2; DatasheetVersion: Rev. B; PackageVersion: Rev. D, 06/2010; PackageReference: UH-32; PackageDescription: 32-Pin Plastic QFN, Body 5 x 5 mm, Pitch 0.5 mm; Supplier 1: Digi-Key; Supplier Part Number 1: LTC3708EUH#PBF-ND; Supplier 2: Farnell; Supplier Part Number 2: 1273949; Supplier 3: Newark; Supplier Part Number 3: 56M8105; RoHS: TRUE; Mounting Technology: Surface Mount; Code_JEDEC: MO-220; ComponentLink1Description: Manufacturer URL; ComponentLink1URL: http://www.linear.com/; ComponentLink2Description: Datasheet; ComponentLink2URL: http://cds.linear.com/docs/en/datasheet/3708fb.pdf; ComponentLink3Description: Package Specification; ComponentLink3URL: http://cds.linear.com/docs/en/packaging/QFN_32_05-08-1693.pdf
footprint LT-UH-32_N (QFN, 32-Leads, Body 5.1x5.1mm, Pitch 0.5mm, Thermal Pad 3.45X3.45mm, IPC Medium Density)
footprint LT-UH-32_L (QFN, 32-Leads, Body 5.1x5.1mm, Pitch 0.5mm, Thermal Pad 3.45X3.45mm, IPC High Density)
footprint LT-UH-32_M (QFN, 32-Leads, Body 5.1x5.1mm, Pitch 0.5mm, Thermal Pad 3.45X3.45mm, IPC Low Density)
part A pins: 2 ITH1 "Error Ampli?er Compensation Point and Current Control Threshold. The current comparator threshold increases with this control voltage. The voltage ranges from 0V to 2.4V with 0.8V corresponding to zero sense voltage (zer(See Datasheet)", 3 VFB1 (in) "Error Ampli?er Feedback Input. This pin connects the error ampli?er input to an external resistive divider from VOUT . Additional compensation can be implemented, if desired, using this pin.", 4 TRACK1 (in) "Tie TRACK2 pin to a resistive divider connected to the output of channel 1 for either coincident or ratiometric output tracking. TRACK1 is used in the same manner between multiple LTC3708s (see Applications Information). To (See Datasheet)", 22 BG1 (out) "Bottom Gate Drive. Drives the gate of the bottom N-channel MOSFET between ground and DRVCC.", 24 SENSE1- (in) "Current Sense Comparator Input. The (-) input to the current comparator is used to accurately Kelvin sense the bottom side of the sense resistor or MOSFET.", 25 SENSE1+ (in) "Current Sense Comparator Input. The (+) input to the current comparator is normally connected to the SW node unless using a sense resistor (See Applications Information).", 26 SW1 "Switch Node. The (-) terminal of the bootstrap capacitor CB connects here. This pin swings from a Schottky diode voltage drop below ground up to VIN.", 27 TG1 (out) "Top Gate Drive. Drives the top N-channel MOSFET with a voltage swing equal to DRVCC superimposed on the switch node voltage SW.", 28 BOOST1 "Boosted Floating Driver Supply. The (+) terminal of the bootstrap capacitor CB connects here. This pin swings from a diode voltage drop below DRVCC up to VIN + DRVCC.", 29 ION1 (in) "On-Time Current Input. Tie a resistor from VIN to this pin to set the one-shot timer current and thereby set the switching frequency.", 32 VRNG1 (in) "Sense Voltage Range Input. The voltage at this pin is ten times the nominal sense voltage at maximum output current and can be programmed from 0.5V to 2V. The sense voltage defaults to 70mV when this pin is tied to ground, (See Datasheet)"
part B pins: 6 TRACK2 (in) "Tie TRACK2 pin to a resistive divider connected to the output of channel 1 for either coincident or ratiometric output tracking. TRACK1 is used in the same manner between multiple LTC3708s (see Applications Information). To (See Datasheet)", 7 VFB2 (in) "Error Ampli?er Feedback Input. This pin connects the error ampli?er input to an external resistive divider from VOUT . Additional compensation can be implemented, if desired, using this pin.", 8 ITH2 "Error Ampli?er Compensation Point and Current Control Threshold. The current comparator threshold increases with this control voltage. The voltage ranges from 0V to 2.4V with 0.8V corresponding to zero sense voltage (zer(See Datasheet)", 11 VRNG2 (in) "Sense Voltage Range Input. The voltage at this pin is ten times the nominal sense voltage at maximum output current and can be programmed from 0.5V to 2V. The sense voltage defaults to 70mV when this pin is tied to ground, (See Datasheet)", 12 ION2 (in) "On-Time Current Input. Tie a resistor from VIN to this pin to set the one-shot timer current and thereby set the switching frequency.", 13 BOOST2 "Boosted Floating Driver Supply. The (+) terminal of the bootstrap capacitor CB connects here. This pin swings from a diode voltage drop below DRVCC up to VIN + DRVCC.", 14 TG2 (out) "Top Gate Drive. Drives the top N-channel MOSFET with a voltage swing equal to DRVCC superimposed on the switch node voltage SW.", 15 SW2 "Switch Node. The (-) terminal of the bootstrap capacitor CB connects here. This pin swings from a Schottky diode voltage drop below ground up to VIN.", 16 SENSE2+ (in) "Current Sense Comparator Input. The (+) input to the current comparator is normally connected to the SW node unless using a sense resistor (See Applications Information).", 18 SENSE2- (in) "Current Sense Comparator Input. The (-) input to the current comparator is used to accurately Kelvin sense the bottom side of the sense resistor or MOSFET.", 20 BG2 (out) "Bottom Gate Drive. Drives the gate of the bottom N-channel MOSFET between ground and DRVCC."
part C pins: 1 RUN/SS (in) "Run Control and Soft-Start Input. A capacitor to ground at this pin sets the ramp rate of the output voltage (approximately 0.5s/uF) and the time delay for overcurrent latchoff (see Applications Information). Forcing this (See Datasheet)", 5 SGND (power) "Signal Ground. All small-signal components and compensation components should connect to this ground and eventually connect to PGND at one point. The Exposed Pad of the LTC3708EUH must be soldered to the PCB.", 9 EXTLPF "Filter Connection for the External PLL. This PLL is used to synchronize the LTC3708 to an external clock. If external clock is not used, leave this pin floating.", 10 INTLPF "Filter Connection for the Internal PLL. This PLL is used to phase shift the second channel to the first channel by 180degrees.", 17 VCC (power) "Main Input Supply. Decouple this pin to SGND with an RC filter (10ohm, 1uF for example).", 19 PGND2 (power) "Power Ground. Connect this pin closely to the source of the bottom N-channel MOSFET, the (-) terminal of CDRVCC and the (-) terminal of CIN.", 21 DRVCC (power) "Driver Supply. Provides supply to the drivers for the bottom gates. Also used for charging the bootstrap capacitors.", 23 PGND1 (power) "Power Ground. Connect this pin closely to the source of the bottom N-channel MOSFET, the (-) terminal of CDRVCC and the (-) terminal of CIN.", 30 PGOOD (oc) "Power Good Output. Open-drain logic output that is pulled to ground when either or both output voltages are not within +/-10% of the regulation point. The output voltage must be out of regulation for at least 100us before (See Datasheet)", 31 FCB (in) "Forced Continuous and External Clock Input. Tie this pin to ground to force continuous synchronous operation or to VCC to enable discontinuous mode operation at light load. Feeding an external clock signal into this pin will (See Datasheet)", 33 EP (power) "Signal Ground. All small-signal components and compensation components should connect to this ground and eventually connect to PGND at one point. The Exposed Pad of the LTC3708EUH must be soldered to the PCB."